# Altium integrated library 632723300011.IntLib: 1 symbol
Pins are listed as number, name and electrical type; pins without a type are passive.

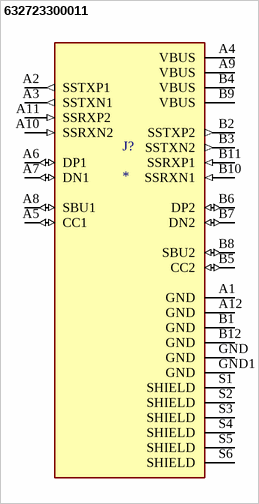
[diagram p0: symbol 632723300011]

## 632723300011
designator J?
USB-C (USB TYPE-C) USB 3.2 Gen 2 (USB 3.1 Gen 2, Superspeed + (USB 3.1)) Receptacle Connector 24 Position Surface Mount, Right Angle; Through Hole; MF: Wurth Elektronik; MP: 632723300011; Value: *; Check_prices: https://www.snapeda.com/parts/632723300011/Wurth+Elektronik/view-part/?ref=eda; SnapEDA_Link: https://www.snapeda.com/parts/632723300011/Wurth+Elektronik/view-part/?ref=snap; Availability: In Stock; Purchase-URL: https://pricing.snapeda.com/search/part/632723300011/?ref=eda; Package: None; Price: None
footprint WURTH_632723X00011
pins: A1 GND (power), A2 SSTXP1 (out), A3 SSTXN1 (out), A4 VBUS (power), A5 CC1 (io), A6 DP1 (io), A7 DN1 (io), A8 SBU1 (io), A9 VBUS (power), A10 SSRXN2 (in), A11 SSRXP2 (in), A12 GND (power), B1 GND (power), B2 SSTXP2 (out), B3 SSTXN2 (out), B4 VBUS (power), B5 CC2 (io), B6 DP2 (io), B7 DN2 (io), B8 SBU2 (io), B9 VBUS (power), B10 SSRXN1 (in), B11 SSRXP1 (in), B12 GND (power), GND (power), GND1 GND (power), S1 SHIELD (power), S2 SHIELD (power), S3 SHIELD (power), S4 SHIELD (power), S5 SHIELD (power), S6 SHIELD (power)